# Altium schematic symbol library Type-C-IN-16Pin.SchLib: 1 symbol
Pins are listed as number, name and electrical type; pins without a type are passive.

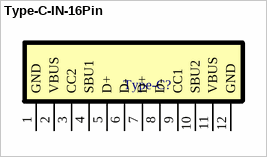
[diagram p0: symbol Type-C-IN-16Pin]

## Type-C-IN-16Pin
designator Type-C?  (value not drawn)
footprint SinkBoard-Type-C-IN-16Pin
pins: 1 GND, 2 VBUS, 3 CC2, 4 SBU1, 5 D+, 6 D-, 7 D+, 8 D-, 9 CC1, 10 SBU2, 11 VBUS, 12 GND